# Altium schematic symbol library electrode_circular.SchLib: 1 symbol
Pins are listed as number, name and electrical type; pins without a type are passive.

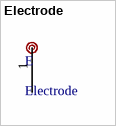
[diagram p0: symbol Electrode]

## Electrode
designator E
footprint E (Electrode circular)
pins: 1